# EAGLE library part TDK_PXF_15_12V (library TeamB_Task11)
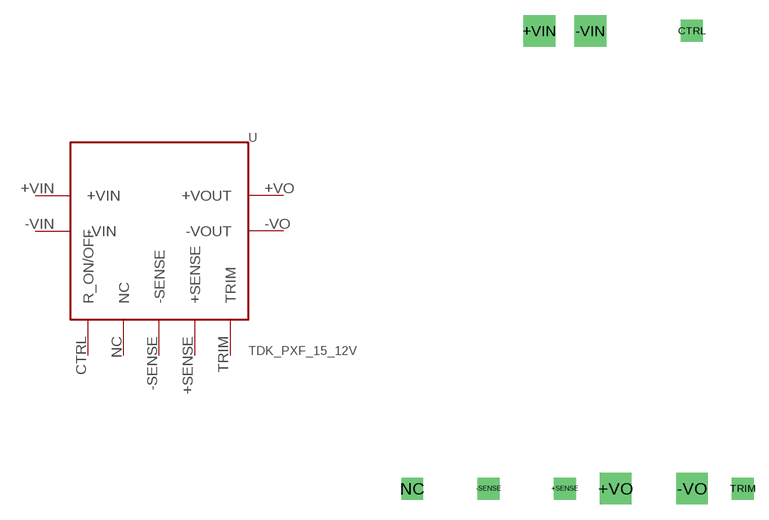
[diagram p1: symbol with the pads of TDK_PXF_15_12V; footprint TDK_PXF_15_12V]

Designator prefix -

## TDK_PXF_15_12V  [TDK_PXF_15_12V]
+SENSE  +SENSE
+VIN  +VIN
+VO  +VOUT
-SENSE  -SENSE
-VIN  -VIN
-VO  -VOUT
CTRL  R_ON/OFF
NC  NC  nc
TRIM  TRIM

## Footprint TDK_PXF_15_12V (pad centres in mm)
drill 1.4 pad 2.184 square: +SENSE -1.27,-19.05; -SENSE -8.89,-19.05; CTRL 11.43,26.67; NC -16.51,-19.05; TRIM 16.51,-19.05
drill 1.4 pad 3.175 square: +VIN -3.81,26.67; +VO 3.81,-19.05; -VIN 1.27,26.67; -VO 11.43,-19.05